# Altium footprint library Mechanical Components.PcbLib: 50 footprints (part 2 of 4)
Each footprint in its own frame and in the unit in brackets; x right, y up, seen from the top. Pads: shape width x height; smd on the part's side, far side on the other; paste and mask are expansions set on the pad; w line width, h text height; cw(c..) or ccw(c..) is an arc to the next point about the centre after c.
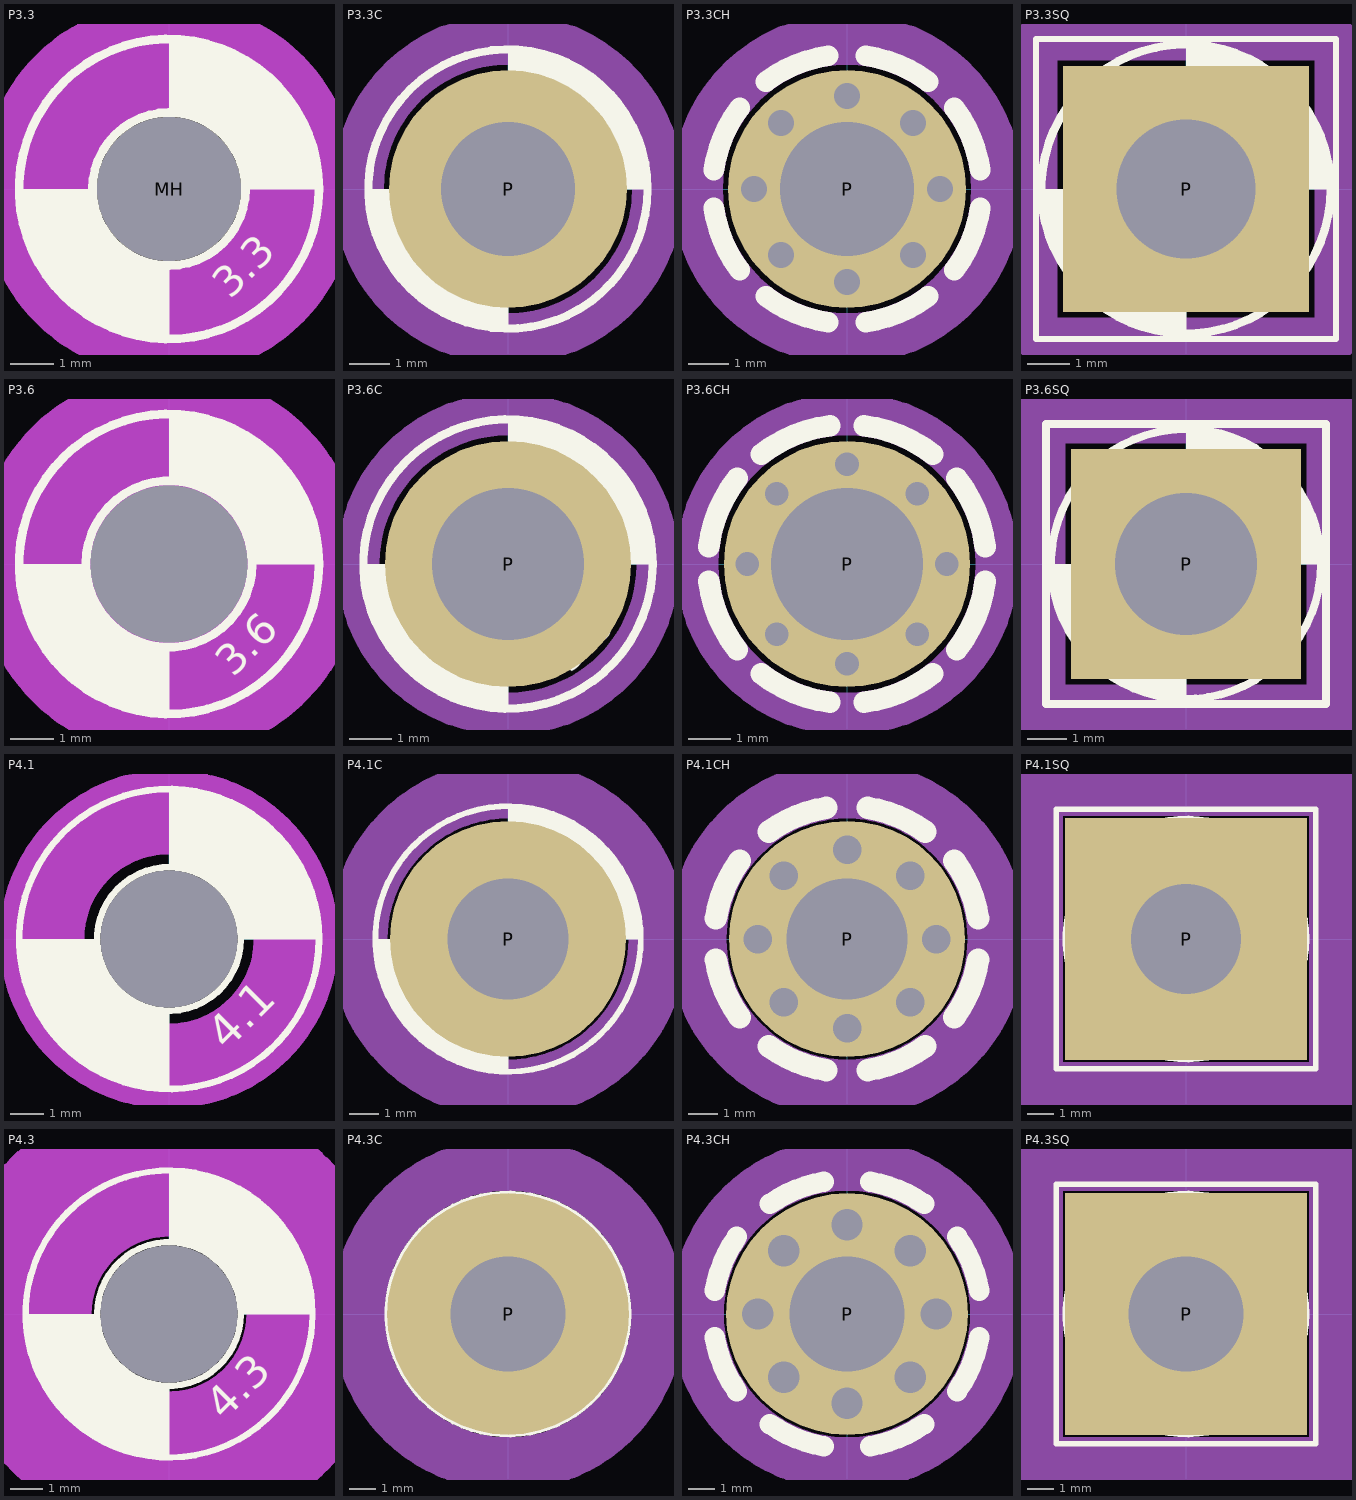
[diagram p1: the footprints below, top view; thin cyan lines are the x and y axes]

## P3.3 [mm] "MOUNTING HOLE 3.3 mm with drill center"
pads (1):
  round 3.3 hole 3.3 unplated: MH(0,0)
Top Overlay:
  circle w0.2: c0,0 r3.429
  circle w0.2: c0,0 r1.75
  region: 0,1.75 0.172,1.742 0.508,1.675 0.825,1.543 1.11,1.353 1.353,1.11 1.543,0.825 1.675,0.508 1.742,0.172 1.75,0 3.429,0 3.429,0.225 3.37,0.67 3.254,1.105 3.082,1.52 2.857,1.909 2.584,2.266 2.266,2.584 1.909,2.857 1.52,3.082 1.105,3.254 0.67,3.37 0.225,3.429 0,3.429
  region: 0,-1.75 -0.172,-1.742 -0.508,-1.675 -0.825,-1.543 -1.11,-1.353 -1.353,-1.11 -1.543,-0.825 -1.675,-0.508 -1.742,-0.172 -1.75,0 -3.429,0 -3.429,-0.225 -3.37,-0.67 -3.254,-1.105 -3.082,-1.52 -2.857,-1.909 -2.584,-2.266 -2.266,-2.584 -1.909,-2.857 -1.52,-3.082 -1.105,-3.254 -0.67,-3.37 -0.225,-3.429 0,-3.429
  text "3.3" at 1.397,-2.54 h0.7
Bottom Overlay:
  circle w0.2: c0,0 r1.75
  circle w0.2: c0,0 r3.429
  region: 0,-1.75 -0.172,-1.742 -0.508,-1.675 -0.825,-1.543 -1.11,-1.353 -1.353,-1.11 -1.543,-0.825 -1.675,-0.508 -1.742,-0.172 -1.75,0 -3.429,0 -3.429,-0.225 -3.37,-0.67 -3.254,-1.105 -3.082,-1.52 -2.857,-1.909 -2.584,-2.266 -2.266,-2.584 -1.909,-2.857 -1.52,-3.082 -1.105,-3.254 -0.67,-3.37 -0.225,-3.429 0,-3.429
  region: 0,1.75 0.172,1.742 0.508,1.675 0.825,1.543 1.11,1.353 1.353,1.11 1.543,0.825 1.675,0.508 1.742,0.172 1.75,0 3.429,0 3.429,0.225 3.37,0.67 3.254,1.105 3.082,1.52 2.857,1.909 2.584,2.266 2.266,2.584 1.909,2.857 1.52,3.082 1.105,3.254 0.67,3.37 0.225,3.429 0,3.429
Keep-Out Layer:
  circle w2.54: c0,0 r3.048
Mechanical 1:
  circle w2.54: c0,0 r3.048

## P3.3C [mil] "MOUNTING PAD 3.3 mm, round, 5.8 mm Diameter"
pads (1):
  round 230 hole 129.92: P(0,0)
Top Overlay:
  circle w7.87: c0,0 r135
  circle w7.87: c0,0 r68.9
  region: 0,68.9 6.75,68.57 20,65.93 32.48,60.76 43.71,53.26 53.26,43.71 60.76,32.48 65.93,20 68.57,6.75 68.9,0 135,0 135,8.85 132.69,26.39 128.11,43.49 121.34,59.84 112.49,75.16 101.72,89.2 89.2,101.72 75.16,112.49 59.84,121.34 43.49,128.11 26.39,132.69 8.85,135 0,135
  region: 0,-68.9 -6.75,-68.57 -20,-65.93 -32.48,-60.76 -43.71,-53.26 -53.26,-43.71 -60.76,-32.48 -65.93,-20 -68.57,-6.75 -68.9,0 -135,0 -135,-8.85 -132.69,-26.39 -128.11,-43.49 -121.34,-59.84 -112.49,-75.16 -101.72,-89.2 -89.2,-101.72 -75.16,-112.49 -59.84,-121.34 -43.49,-128.11 -26.39,-132.69 -8.85,-135 0,-135
  text "3.3" at 55,-100 h27.56
Bottom Overlay:
  circle w7.87: c0,0 r68.9
  circle w7.87: c0,0 r135
  region: 0,-68.9 -6.75,-68.57 -20,-65.93 -32.48,-60.76 -43.71,-53.26 -53.26,-43.71 -60.76,-32.48 -65.93,-20 -68.57,-6.75 -68.9,0 -135,0 -135,-8.85 -132.69,-26.39 -128.11,-43.49 -121.34,-59.84 -112.49,-75.16 -101.72,-89.2 -89.2,-101.72 -75.16,-112.49 -59.84,-121.34 -43.49,-128.11 -26.39,-132.69 -8.85,-135 0,-135
  region: 0,68.9 6.75,68.57 20,65.93 32.48,60.76 43.71,53.26 53.26,43.71 60.76,32.48 65.93,20 68.57,6.75 68.9,0 135,0 135,8.85 132.69,26.39 128.11,43.49 121.34,59.84 112.49,75.16 101.72,89.2 89.2,101.72 75.16,112.49 59.84,121.34 43.49,128.11 26.39,132.69 8.85,135 0,135
Mechanical 1:
  circle w50: c0,0 r145

## P3.3CH [mil] "MOUNTING PAD 3.3 mm, round, 5.8 mm Diameter; with Holes around it"
pads (9):
  round 0 hole 25 mask-50: P(-90,0) P(-63.64,-63.64) P(-63.64,63.64) P(0,-90) P(0,90) P(63.64,-63.64) P(63.64,63.64) P(90,0)
  round 230 hole 129.92: P(0,0)
Top Overlay:
  lines w20: -128.73,-18.09 ccw(c0,0) -103.82,-78.24 ; -128.73,18.09 cw(c0,0) -103.82,78.24 ; -78.24,-103.82 ccw(c0,0) -18.09,-128.73 ; -78.24,103.82 cw(c0,0) -18.09,128.73 ; 18.09,-128.73 ccw(c0,0) 78.24,-103.82 ; 18.09,128.73 cw(c0,0) 78.24,103.82 ; 103.82,-78.24 ccw(c0,0) 128.73,-18.09 ; 103.82,78.24 cw(c0,0) 128.73,18.09
Bottom Overlay:
  lines w20: -128.73,-18.09 ccw(c0,0) -103.82,-78.24 ; -128.73,18.09 cw(c0,0) -103.82,78.24 ; -78.24,-103.82 ccw(c0,0) -18.09,-128.73 ; -78.24,103.82 cw(c0,0) -18.09,128.73 ; 18.09,-128.73 ccw(c0,0) 78.24,-103.82 ; 18.09,128.73 cw(c0,0) 78.24,103.82 ; 103.82,-78.24 ccw(c0,0) 128.73,-18.09 ; 103.82,78.24 cw(c0,0) 128.73,18.09
Mechanical 1:
  circle w50: c0,0 r145

## P3.3SQ [mil] "MOUNTING PAD 3.3 mm, square, 5.8x5.8 mm"
pads (1):
  rect 230x230 hole 129.92: P(0,0)
Top Overlay:
  circle w7.87: c0,0 r68.9
  circle w7.87: c0,0 r135
  region: 0,-68.9 -6.75,-68.57 -20,-65.93 -32.48,-60.76 -43.71,-53.26 -53.26,-43.71 -60.76,-32.48 -65.93,-20 -68.57,-6.75 -68.9,0 -135,0 -135,-8.85 -132.69,-26.39 -128.11,-43.49 -121.34,-59.84 -112.49,-75.16 -101.72,-89.2 -89.2,-101.72 -75.16,-112.49 -59.84,-121.34 -43.49,-128.11 -26.39,-132.69 -8.85,-135 0,-135
  region: 0,68.9 6.75,68.57 20,65.93 32.48,60.76 43.71,53.26 53.26,43.71 60.76,32.48 65.93,20 68.57,6.75 68.9,0 135,0 135,8.85 132.69,26.39 128.11,43.49 121.34,59.84 112.49,75.16 101.72,89.2 89.2,101.72 75.16,112.49 59.84,121.34 43.49,128.11 26.39,132.69 8.85,135 0,135
  lines w6: -140,-140 140,-140 140,140 -140,140 -140,-140
  text "3.3" at 55,-100 h27.56
Bottom Overlay:
  circle w7.87: c0,0 r135
  circle w7.87: c0,0 r68.9
  region: 0,68.9 6.75,68.57 20,65.93 32.48,60.76 43.71,53.26 53.26,43.71 60.76,32.48 65.93,20 68.57,6.75 68.9,0 135,0 135,8.85 132.69,26.39 128.11,43.49 121.34,59.84 112.49,75.16 101.72,89.2 89.2,101.72 75.16,112.49 59.84,121.34 43.49,128.11 26.39,132.69 8.85,135 0,135
  region: 0,-68.9 -6.75,-68.57 -20,-65.93 -32.48,-60.76 -43.71,-53.26 -53.26,-43.71 -60.76,-32.48 -65.93,-20 -68.57,-6.75 -68.9,0 -135,0 -135,-8.85 -132.69,-26.39 -128.11,-43.49 -121.34,-59.84 -112.49,-75.16 -101.72,-89.2 -89.2,-101.72 -75.16,-112.49 -59.84,-121.34 -43.49,-128.11 -26.39,-132.69 -8.85,-135 0,-135
  lines w6: -140,-140 -140,140 140,140 140,-140 -140,-140
Mechanical 1:
  lines w40: -140,-140 -140,140 140,140 140,-140 -140,-140

## P3.6 [mm] "MOUNTING HOLE 3.6 mm with drill center"
pads (1):
  round 0 hole 3.6 unplated: MH(0,0)
Top Overlay:
  circle w0.2: c0,0 r1.9
  circle w0.2: c0,0 r3.429
  region: 0,1.9 0.186,1.891 0.552,1.818 0.896,1.676 1.205,1.469 1.469,1.205 1.676,0.896 1.818,0.552 1.891,0.186 1.9,0 3.429,0 3.429,0.225 3.37,0.67 3.254,1.105 3.082,1.52 2.857,1.909 2.584,2.266 2.266,2.584 1.909,2.857 1.52,3.082 1.105,3.254 0.67,3.37 0.225,3.429 0,3.429
  region: 0,-1.9 -0.186,-1.891 -0.552,-1.818 -0.896,-1.676 -1.205,-1.469 -1.469,-1.205 -1.676,-0.896 -1.818,-0.552 -1.891,-0.186 -1.9,0 -3.429,0 -3.429,-0.225 -3.37,-0.67 -3.254,-1.105 -3.082,-1.52 -2.857,-1.909 -2.584,-2.266 -2.266,-2.584 -1.909,-2.857 -1.52,-3.082 -1.105,-3.254 -0.67,-3.37 -0.225,-3.429 0,-3.429
  text "3.6" at 1.473,-2.616 h0.7
Bottom Overlay:
  circle w0.2: c0,0 r3.429
  circle w0.2: c0,0 r1.9
  region: 0,-1.9 -0.186,-1.891 -0.552,-1.818 -0.896,-1.676 -1.205,-1.469 -1.469,-1.205 -1.676,-0.896 -1.818,-0.552 -1.891,-0.186 -1.9,0 -3.429,0 -3.429,-0.225 -3.37,-0.67 -3.254,-1.105 -3.082,-1.52 -2.857,-1.909 -2.584,-2.266 -2.266,-2.584 -1.909,-2.857 -1.52,-3.082 -1.105,-3.254 -0.67,-3.37 -0.225,-3.429 0,-3.429
  region: 0,1.9 0.186,1.891 0.552,1.818 0.896,1.676 1.205,1.469 1.469,1.205 1.676,0.896 1.818,0.552 1.891,0.186 1.9,0 3.429,0 3.429,0.225 3.37,0.67 3.254,1.105 3.082,1.52 2.857,1.909 2.584,2.266 2.266,2.584 1.909,2.857 1.52,3.082 1.105,3.254 0.67,3.37 0.225,3.429 0,3.429
Keep-Out Layer:
  circle w2.769: c0,0 r3.048
Mechanical 1:
  circle w2.769: c0,0 r3.048

## P3.6C [mil] "MOUNTING PAD 3.6 mm, round, 5.8 mm Diameter"
pads (1):
  round 230 hole 141.73: P(0,0)
Top Overlay:
  circle w7.87: c0,0 r135
  circle w7.87: c0,0 r74.8
  region: 0,-74.8 -7.33,-74.44 -21.71,-71.58 -35.26,-65.97 -47.45,-57.82 -57.82,-47.45 -65.97,-35.26 -71.58,-21.71 -74.44,-7.33 -74.8,0 -135,0 -135,-8.85 -132.69,-26.39 -128.11,-43.49 -121.34,-59.84 -112.49,-75.16 -101.72,-89.2 -89.2,-101.72 -75.16,-112.49 -59.84,-121.34 -43.49,-128.11 -26.39,-132.69 -8.85,-135 0,-135
  region: 0,74.8 7.33,74.44 21.71,71.58 35.26,65.97 47.45,57.82 57.82,47.45 65.97,35.26 71.58,21.71 74.44,7.33 74.8,0 135,0 135,8.85 132.69,26.39 128.11,43.49 121.34,59.84 112.49,75.16 101.72,89.2 89.2,101.72 75.16,112.49 59.84,121.34 43.49,128.11 26.39,132.69 8.85,135 0,135
  text "3.6" at 58,-103 h27.56
Bottom Overlay:
  circle w7.87: c0,0 r74.8
  circle w7.87: c0,0 r135
  region: 0,74.8 7.33,74.44 21.71,71.58 35.26,65.97 47.45,57.82 57.82,47.45 65.97,35.26 71.58,21.71 74.44,7.33 74.8,0 135,0 135,8.85 132.69,26.39 128.11,43.49 121.34,59.84 112.49,75.16 101.72,89.2 89.2,101.72 75.16,112.49 59.84,121.34 43.49,128.11 26.39,132.69 8.85,135 0,135
  region: 0,-74.8 -7.33,-74.44 -21.71,-71.58 -35.26,-65.97 -47.45,-57.82 -57.82,-47.45 -65.97,-35.26 -71.58,-21.71 -74.44,-7.33 -74.8,0 -135,0 -135,-8.85 -132.69,-26.39 -128.11,-43.49 -121.34,-59.84 -112.49,-75.16 -101.72,-89.2 -89.2,-101.72 -75.16,-112.49 -59.84,-121.34 -43.49,-128.11 -26.39,-132.69 -8.85,-135 0,-135
Mechanical 1:
  circle w40: c0,0 r140

## P3.6CH [mil] "MOUNTING PAD 3.6 mm, round, 5.8 mm Diameter; with Holes around it"
pads (9):
  round 0 hole 22 mask-50: P(-93,0) P(-65.76,-65.76) P(-65.76,65.76) P(0,-93) P(0,93) P(65.76,-65.76) P(65.76,65.76) P(93,0)
  round 230 hole 141.73: P(0,0)
Top Overlay:
  lines w20: -129.03,-15.84 ccw(c0,0) -102.44,-80.04 ; -129.03,15.84 cw(c0,0) -102.44,80.04 ; -80.04,-102.44 ccw(c0,0) -15.84,-129.03 ; -80.04,102.44 cw(c0,0) -15.84,129.03 ; 15.84,-129.03 ccw(c0,0) 80.04,-102.44 ; 15.84,129.03 cw(c0,0) 80.04,102.44 ; 102.44,-80.04 ccw(c0,0) 129.03,-15.84 ; 102.44,80.04 cw(c0,0) 129.03,15.84
Bottom Overlay:
  lines w20: -129.03,-15.84 ccw(c0,0) -102.44,-80.04 ; -129.03,15.84 cw(c0,0) -102.44,80.04 ; -80.04,-102.44 ccw(c0,0) -15.84,-129.03 ; -80.04,102.44 cw(c0,0) -15.84,129.03 ; 15.84,-129.03 ccw(c0,0) 80.04,-102.44 ; 15.84,129.03 cw(c0,0) 80.04,102.44 ; 102.44,-80.04 ccw(c0,0) 129.03,-15.84 ; 102.44,80.04 cw(c0,0) 129.03,15.84
Mechanical 1:
  circle w40: c0,0 r140

## P3.6SQ [mil] "MOUNTING PAD 3.6 mm, square, 5.8x5.8 mm"
pads (1):
  rect 230x230 hole 141.73: P(0,0)
Top Overlay:
  circle w7.87: c0,0 r135
  circle w7.87: c0,0 r74.8
  region: 0,-74.8 -7.33,-74.44 -21.71,-71.58 -35.26,-65.97 -47.45,-57.82 -57.82,-47.45 -65.97,-35.26 -71.58,-21.71 -74.44,-7.33 -74.8,0 -135,0 -135,-8.85 -132.69,-26.39 -128.11,-43.49 -121.34,-59.84 -112.49,-75.16 -101.72,-89.2 -89.2,-101.72 -75.16,-112.49 -59.84,-121.34 -43.49,-128.11 -26.39,-132.69 -8.85,-135 0,-135
  region: 0,74.8 7.33,74.44 21.71,71.58 35.26,65.97 47.45,57.82 57.82,47.45 65.97,35.26 71.58,21.71 74.44,7.33 74.8,0 135,0 135,8.85 132.69,26.39 128.11,43.49 121.34,59.84 112.49,75.16 101.72,89.2 89.2,101.72 75.16,112.49 59.84,121.34 43.49,128.11 26.39,132.69 8.85,135 0,135
  lines w8: -140,-140 -140,140 140,140 140,-140 -140,-140
  text "3.6" at 58,-103 h27.56
Bottom Overlay:
  circle w7.87: c0,0 r74.8
  circle w7.87: c0,0 r135
  region: 0,74.8 7.33,74.44 21.71,71.58 35.26,65.97 47.45,57.82 57.82,47.45 65.97,35.26 71.58,21.71 74.44,7.33 74.8,0 135,0 135,8.85 132.69,26.39 128.11,43.49 121.34,59.84 112.49,75.16 101.72,89.2 89.2,101.72 75.16,112.49 59.84,121.34 43.49,128.11 26.39,132.69 8.85,135 0,135
  region: 0,-74.8 -7.33,-74.44 -21.71,-71.58 -35.26,-65.97 -47.45,-57.82 -57.82,-47.45 -65.97,-35.26 -71.58,-21.71 -74.44,-7.33 -74.8,0 -135,0 -135,-8.85 -132.69,-26.39 -128.11,-43.49 -121.34,-59.84 -112.49,-75.16 -101.72,-89.2 -89.2,-101.72 -75.16,-112.49 -59.84,-121.34 -43.49,-128.11 -26.39,-132.69 -8.85,-135 0,-135
  lines w8: -140,-140 140,-140 140,140 -140,140 -140,-140
Mechanical 1:
  lines w59.06: -150,-150 150,-150 150,150 -150,150 -150,-150

## P4.1 [mm] "MOUNTING HOLE 4.1 mm with drill center"
pads (1):
  round 0 hole 4.1 unplated: MH(0,0)
Top Overlay:
  circle w0.2: c0,0 r2.15
  circle w0.2: c0,0 r4.496
  region: 0,2.15 0.211,2.14 0.624,2.057 1.014,1.896 1.364,1.662 1.662,1.364 1.896,1.014 2.057,0.624 2.14,0.211 2.15,0 4.496,0 4.496,0.295 4.419,0.879 4.266,1.448 4.041,1.993 3.746,2.503 3.387,2.971 2.971,3.387 2.503,3.746 1.993,4.041 1.448,4.266 0.879,4.419 0.295,4.496 0,4.496
  region: 0,-2.15 -0.211,-2.14 -0.624,-2.057 -1.014,-1.896 -1.364,-1.662 -1.662,-1.364 -1.896,-1.014 -2.057,-0.624 -2.14,-0.211 -2.15,0 -4.496,0 -4.496,-0.295 -4.419,-0.879 -4.266,-1.448 -4.041,-1.993 -3.746,-2.503 -3.387,-2.971 -2.971,-3.387 -2.503,-3.746 -1.993,-4.041 -1.448,-4.266 -0.879,-4.419 -0.295,-4.496 0,-4.496
  text "4.1" at 1.727,-3.378 h1
Bottom Overlay:
  circle w0.2: c0,0 r4.496
  circle w0.2: c0,0 r2.15
  region: 0,-2.15 -0.211,-2.14 -0.624,-2.057 -1.014,-1.896 -1.364,-1.662 -1.662,-1.364 -1.896,-1.014 -2.057,-0.624 -2.14,-0.211 -2.15,0 -4.496,0 -4.496,-0.295 -4.419,-0.879 -4.266,-1.448 -4.041,-1.993 -3.746,-2.503 -3.387,-2.971 -2.971,-3.387 -2.503,-3.746 -1.993,-4.041 -1.448,-4.266 -0.879,-4.419 -0.295,-4.496 0,-4.496
  region: 0,2.15 0.211,2.14 0.624,2.057 1.014,1.896 1.364,1.662 1.662,1.364 1.896,1.014 2.057,0.624 2.14,0.211 2.15,0 4.496,0 4.496,0.295 4.419,0.879 4.266,1.448 4.041,1.993 3.746,2.503 3.387,2.971 2.971,3.387 2.503,3.746 1.993,4.041 1.448,4.266 0.879,4.419 0.295,4.496 0,4.496
Keep-Out Layer:
  circle w2.54: c0,0 r3.81
Mechanical 1:
  circle w2.54: c0,0 r3.81

## P4.1C [mm] "MOUNTING PAD 4.1 mm, round, 8.0 mm Diameter"
pads (1):
  round 8 hole 4.1: P(0,0)
Top Overlay:
  circle w0.2: c0,0 r4.496
  circle w0.2: c0,0 r2.15
  region: 0,-2.15 -0.211,-2.14 -0.624,-2.057 -1.014,-1.896 -1.364,-1.662 -1.662,-1.364 -1.896,-1.014 -2.057,-0.624 -2.14,-0.211 -2.15,0 -4.496,0 -4.496,-0.295 -4.419,-0.879 -4.266,-1.448 -4.041,-1.993 -3.746,-2.503 -3.387,-2.971 -2.971,-3.387 -2.503,-3.746 -1.993,-4.041 -1.448,-4.266 -0.879,-4.419 -0.295,-4.496 0,-4.496
  region: 0,2.15 0.211,2.14 0.624,2.057 1.014,1.896 1.364,1.662 1.662,1.364 1.896,1.014 2.057,0.624 2.14,0.211 2.15,0 4.496,0 4.496,0.295 4.419,0.879 4.266,1.448 4.041,1.993 3.746,2.503 3.387,2.971 2.971,3.387 2.503,3.746 1.993,4.041 1.448,4.266 0.879,4.419 0.295,4.496 0,4.496
  text "4.1" at 1.727,-3.378 h1
Bottom Overlay:
  circle w0.2: c0,0 r2.15
  circle w0.2: c0,0 r4.496
  region: 0,2.15 0.211,2.14 0.624,2.057 1.014,1.896 1.364,1.662 1.662,1.364 1.896,1.014 2.057,0.624 2.14,0.211 2.15,0 4.496,0 4.496,0.295 4.419,0.879 4.266,1.448 4.041,1.993 3.746,2.503 3.387,2.971 2.971,3.387 2.503,3.746 1.993,4.041 1.448,4.266 0.879,4.419 0.295,4.496 0,4.496
  region: 0,-2.15 -0.211,-2.14 -0.624,-2.057 -1.014,-1.896 -1.364,-1.662 -1.662,-1.364 -1.896,-1.014 -2.057,-0.624 -2.14,-0.211 -2.15,0 -4.496,0 -4.496,-0.295 -4.419,-0.879 -4.266,-1.448 -4.041,-1.993 -3.746,-2.503 -3.387,-2.971 -2.971,-3.387 -2.503,-3.746 -1.993,-4.041 -1.448,-4.266 -0.879,-4.419 -0.295,-4.496 0,-4.496
Mechanical 1:
  circle w2: c0,0 r5.08

## P4.1CH [mil] "MOUNTING PAD 4.1 mm, round, 8.0 mm Diameter; with Holes around it"
pads (9):
  round 0 hole 38 mask-50: P(-119,0) P(-84.15,-84.15) P(-84.15,84.15) P(0,-119) P(0,119) P(84.15,-84.15) P(84.15,84.15) P(119,0)
  round 314.96 hole 161.42: P(0,0)
Top Overlay:
  lines w30: -174.82,-27.69 ccw(c0,0) -143.2,-104.04 ; -174.82,27.69 cw(c0,0) -143.2,104.04 ; -104.04,-143.2 ccw(c0,0) -27.69,-174.82 ; -104.04,143.2 cw(c0,0) -27.69,174.82 ; 27.69,-174.82 ccw(c0,0) 104.04,-143.2 ; 27.69,174.82 cw(c0,0) 104.04,143.2 ; 143.2,-104.04 ccw(c0,0) 174.82,-27.69 ; 143.2,104.04 cw(c0,0) 174.82,27.69
Bottom Overlay:
  lines w30: -174.82,-27.69 ccw(c0,0) -143.2,-104.04 ; -174.82,27.69 cw(c0,0) -143.2,104.04 ; -104.04,-143.2 ccw(c0,0) -27.69,-174.82 ; -104.04,143.2 cw(c0,0) -27.69,174.82 ; 27.69,-174.82 ccw(c0,0) 104.04,-143.2 ; 27.69,174.82 cw(c0,0) 104.04,143.2 ; 143.2,-104.04 ccw(c0,0) 174.82,-27.69 ; 143.2,104.04 cw(c0,0) 174.82,27.69
Mechanical 1:
  circle w78.74: c0,0 r200

## P4.1SQ [mm] "MOUNTING PAD 4.1 mm, square, 9.0x9.0 mm"
pads (1):
  rect 9x9 hole 4.1: P(0,0)
Top Overlay:
  circle w0.2: c0,0 r4.496
  circle w0.2: c0,0 r2.15
  region: 0,-2.15 -0.211,-2.14 -0.624,-2.057 -1.014,-1.896 -1.364,-1.662 -1.662,-1.364 -1.896,-1.014 -2.057,-0.624 -2.14,-0.211 -2.15,0 -4.496,0 -4.496,-0.295 -4.419,-0.879 -4.266,-1.448 -4.041,-1.993 -3.746,-2.503 -3.387,-2.971 -2.971,-3.387 -2.503,-3.746 -1.993,-4.041 -1.448,-4.266 -0.879,-4.419 -0.295,-4.496 0,-4.496
  region: 0,2.15 0.211,2.14 0.624,2.057 1.014,1.896 1.364,1.662 1.662,1.364 1.896,1.014 2.057,0.624 2.14,0.211 2.15,0 4.496,0 4.496,0.295 4.419,0.879 4.266,1.448 4.041,1.993 3.746,2.503 3.387,2.971 2.971,3.387 2.503,3.746 1.993,4.041 1.448,4.266 0.879,4.419 0.295,4.496 0,4.496
  lines w0.203: -4.826,-4.826 4.826,-4.826 4.826,4.826 -4.826,4.826 -4.826,-4.826
  text "4.1" at 1.727,-3.378 h1
Bottom Overlay:
  circle w0.2: c0,0 r2.15
  circle w0.2: c0,0 r4.496
  region: 0,2.15 0.211,2.14 0.624,2.057 1.014,1.896 1.364,1.662 1.662,1.364 1.896,1.014 2.057,0.624 2.14,0.211 2.15,0 4.496,0 4.496,0.295 4.419,0.879 4.266,1.448 4.041,1.993 3.746,2.503 3.387,2.971 2.971,3.387 2.503,3.746 1.993,4.041 1.448,4.266 0.879,4.419 0.295,4.496 0,4.496
  region: 0,-2.15 -0.211,-2.14 -0.624,-2.057 -1.014,-1.896 -1.364,-1.662 -1.662,-1.364 -1.896,-1.014 -2.057,-0.624 -2.14,-0.211 -2.15,0 -4.496,0 -4.496,-0.295 -4.419,-0.879 -4.266,-1.448 -4.041,-1.993 -3.746,-2.503 -3.387,-2.971 -2.971,-3.387 -2.503,-3.746 -1.993,-4.041 -1.448,-4.266 -0.879,-4.419 -0.295,-4.496 0,-4.496
  lines w0.203: -4.826,-4.826 -4.826,4.826 4.826,4.826 4.826,-4.826 -4.826,-4.826
Mechanical 1:
  lines w2: -5.588,-5.588 -5.588,5.588 5.588,5.588 5.588,-5.588 -5.588,-5.588

## P4.3 [mm] "MOUNTING HOLE 4.3 mm with drill center"
pads (1):
  round 0 hole 4.3 unplated: MH(0,0)
Top Overlay:
  circle w0.2: c0,0 r2.25
  circle w0.2: c0,0 r4.496
  region: 0,2.25 0.221,2.239 0.653,2.153 1.061,1.984 1.427,1.739 1.739,1.427 1.984,1.061 2.153,0.653 2.239,0.221 2.25,0 4.496,0 4.496,0.295 4.419,0.879 4.266,1.448 4.041,1.993 3.746,2.503 3.387,2.971 2.971,3.387 2.503,3.746 1.993,4.041 1.448,4.266 0.879,4.419 0.295,4.496 0,4.496
  region: 0,-2.25 -0.221,-2.239 -0.653,-2.153 -1.061,-1.984 -1.427,-1.739 -1.739,-1.427 -1.984,-1.061 -2.153,-0.653 -2.239,-0.221 -2.25,0 -4.496,0 -4.496,-0.295 -4.419,-0.879 -4.266,-1.448 -4.041,-1.993 -3.746,-2.503 -3.387,-2.971 -2.971,-3.387 -2.503,-3.746 -1.993,-4.041 -1.448,-4.266 -0.879,-4.419 -0.295,-4.496 0,-4.496
  text "4.3" at 1.727,-3.378 h1
Bottom Overlay:
  circle w0.2: c0,0 r4.496
  circle w0.2: c0,0 r2.25
  region: 0,-2.25 -0.221,-2.239 -0.653,-2.153 -1.061,-1.984 -1.427,-1.739 -1.739,-1.427 -1.984,-1.061 -2.153,-0.653 -2.239,-0.221 -2.25,0 -4.496,0 -4.496,-0.295 -4.419,-0.879 -4.266,-1.448 -4.041,-1.993 -3.746,-2.503 -3.387,-2.971 -2.971,-3.387 -2.503,-3.746 -1.993,-4.041 -1.448,-4.266 -0.879,-4.419 -0.295,-4.496 0,-4.496
  region: 0,2.25 0.221,2.239 0.653,2.153 1.061,1.984 1.427,1.739 1.739,1.427 1.984,1.061 2.153,0.653 2.239,0.221 2.25,0 4.496,0 4.496,0.295 4.419,0.879 4.266,1.448 4.041,1.993 3.746,2.503 3.387,2.971 2.971,3.387 2.503,3.746 1.993,4.041 1.448,4.266 0.879,4.419 0.295,4.496 0,4.496
Keep-Out Layer:
  circle w4.547: c0,0 r4.699
Mechanical 1:
  circle w4.547: c0,0 r4.699

## P4.3C [mm] "MOUNTING PAD 4.3 mm, round, 9.0 mm Diameter"
pads (1):
  round 9 hole 4.3: P(0,0)
Top Overlay:
  circle w0.2: c0,0 r4.496
  circle w0.2: c0,0 r2.25
  region: 0,-2.25 -0.221,-2.239 -0.653,-2.153 -1.061,-1.984 -1.427,-1.739 -1.739,-1.427 -1.984,-1.061 -2.153,-0.653 -2.239,-0.221 -2.25,0 -4.496,0 -4.496,-0.295 -4.419,-0.879 -4.266,-1.448 -4.041,-1.993 -3.746,-2.503 -3.387,-2.971 -2.971,-3.387 -2.503,-3.746 -1.993,-4.041 -1.448,-4.266 -0.879,-4.419 -0.295,-4.496 0,-4.496
  region: 0,2.25 0.221,2.239 0.653,2.153 1.061,1.984 1.427,1.739 1.739,1.427 1.984,1.061 2.153,0.653 2.239,0.221 2.25,0 4.496,0 4.496,0.295 4.419,0.879 4.266,1.448 4.041,1.993 3.746,2.503 3.387,2.971 2.971,3.387 2.503,3.746 1.993,4.041 1.448,4.266 0.879,4.419 0.295,4.496 0,4.496
  text "4.3" at 1.727,-3.378 h1
Bottom Overlay:
  circle w0.2: c0,0 r2.25
  circle w0.2: c0,0 r4.496
  region: 0,2.25 0.221,2.239 0.653,2.153 1.061,1.984 1.427,1.739 1.739,1.427 1.984,1.061 2.153,0.653 2.239,0.221 2.25,0 4.496,0 4.496,0.295 4.419,0.879 4.266,1.448 4.041,1.993 3.746,2.503 3.387,2.971 2.971,3.387 2.503,3.746 1.993,4.041 1.448,4.266 0.879,4.419 0.295,4.496 0,4.496
  region: 0,-2.25 -0.221,-2.239 -0.653,-2.153 -1.061,-1.984 -1.427,-1.739 -1.739,-1.427 -1.984,-1.061 -2.153,-0.653 -2.239,-0.221 -2.25,0 -4.496,0 -4.496,-0.295 -4.419,-0.879 -4.266,-1.448 -4.041,-1.993 -3.746,-2.503 -3.387,-2.971 -2.971,-3.387 -2.503,-3.746 -1.993,-4.041 -1.448,-4.266 -0.879,-4.419 -0.295,-4.496 0,-4.496
Mechanical 1:
  circle w2: c0,0 r5.588

## P4.3CH [mil] "MOUNTING PAD 4.3 mm, round, 9.0 mm Diameter; with Holes around it"
pads (9):
  round 0 hole 46 mask-50: P(-131,0) P(-92.63,-92.63) P(-92.63,92.63) P(0,-131) P(0,131) P(92.63,-92.63) P(92.63,92.63) P(131,0)
  round 354.33 hole 169.29: P(0,0)
Top Overlay:
  lines w30: -194.01,-34.21 ccw(c0,0) -161.37,-112.99 ; -194.01,34.21 cw(c0,0) -161.37,112.99 ; -112.99,-161.37 ccw(c0,0) -34.21,-194.01 ; -112.99,161.37 cw(c0,0) -34.21,194.01 ; 34.21,-194.01 ccw(c0,0) 112.99,-161.37 ; 34.21,194.01 cw(c0,0) 112.99,161.37 ; 161.37,-112.99 ccw(c0,0) 194.01,-34.21 ; 161.37,112.99 cw(c0,0) 194.01,34.21
Bottom Overlay:
  lines w30: -194.01,-34.21 ccw(c0,0) -161.37,-112.99 ; -194.01,34.21 cw(c0,0) -161.37,112.99 ; -112.99,-161.37 ccw(c0,0) -34.21,-194.01 ; -112.99,161.37 cw(c0,0) -34.21,194.01 ; 34.21,-194.01 ccw(c0,0) 112.99,-161.37 ; 34.21,194.01 cw(c0,0) 112.99,161.37 ; 161.37,-112.99 ccw(c0,0) 194.01,-34.21 ; 161.37,112.99 cw(c0,0) 194.01,34.21
Mechanical 1:
  circle w78.74: c0,0 r220

## P4.3SQ [mm] "MOUNTING PAD 4.3 mm, square, 9.0x9.0 mm"
pads (1):
  rect 9x9 hole 4.3: P(0,0)
Top Overlay:
  circle w0.2: c0,0 r2.25
  circle w0.2: c0,0 r4.496
  region: 0,2.25 0.221,2.239 0.653,2.153 1.061,1.984 1.427,1.739 1.739,1.427 1.984,1.061 2.153,0.653 2.239,0.221 2.25,0 4.496,0 4.496,0.295 4.419,0.879 4.266,1.448 4.041,1.993 3.746,2.503 3.387,2.971 2.971,3.387 2.503,3.746 1.993,4.041 1.448,4.266 0.879,4.419 0.295,4.496 0,4.496
  region: 0,-2.25 -0.221,-2.239 -0.653,-2.153 -1.061,-1.984 -1.427,-1.739 -1.739,-1.427 -1.984,-1.061 -2.153,-0.653 -2.239,-0.221 -2.25,0 -4.496,0 -4.496,-0.295 -4.419,-0.879 -4.266,-1.448 -4.041,-1.993 -3.746,-2.503 -3.387,-2.971 -2.971,-3.387 -2.503,-3.746 -1.993,-4.041 -1.448,-4.266 -0.879,-4.419 -0.295,-4.496 0,-4.496
  lines w0.203: -4.826,-4.826 4.826,-4.826 4.826,4.826 -4.826,4.826 -4.826,-4.826
  text "4.3" at 1.727,-3.378 h1
Bottom Overlay:
  circle w0.2: c0,0 r4.496
  circle w0.2: c0,0 r2.25
  region: 0,-2.25 -0.221,-2.239 -0.653,-2.153 -1.061,-1.984 -1.427,-1.739 -1.739,-1.427 -1.984,-1.061 -2.153,-0.653 -2.239,-0.221 -2.25,0 -4.496,0 -4.496,-0.295 -4.419,-0.879 -4.266,-1.448 -4.041,-1.993 -3.746,-2.503 -3.387,-2.971 -2.971,-3.387 -2.503,-3.746 -1.993,-4.041 -1.448,-4.266 -0.879,-4.419 -0.295,-4.496 0,-4.496
  region: 0,2.25 0.221,2.239 0.653,2.153 1.061,1.984 1.427,1.739 1.739,1.427 1.984,1.061 2.153,0.653 2.239,0.221 2.25,0 4.496,0 4.496,0.295 4.419,0.879 4.266,1.448 4.041,1.993 3.746,2.503 3.387,2.971 2.971,3.387 2.503,3.746 1.993,4.041 1.448,4.266 0.879,4.419 0.295,4.496 0,4.496
  lines w0.203: -4.826,-4.826 -4.826,4.826 4.826,4.826 4.826,-4.826 -4.826,-4.826
Mechanical 1:
  lines w2: -5.588,-5.588 5.588,-5.588 5.588,5.588 -5.588,5.588 -5.588,-5.588